# Altium footprint library QFN-28_6x6x065P.PcbLib: 1 footprints
Each footprint in its own frame and in the unit in brackets; x right, y up, seen from the top. Pads: shape width x height; smd on the part's side, far side on the other; paste and mask are expansions set on the pad; w line width, h text height; cw(c..) or ccw(c..) is an arc to the next point about the centre after c.
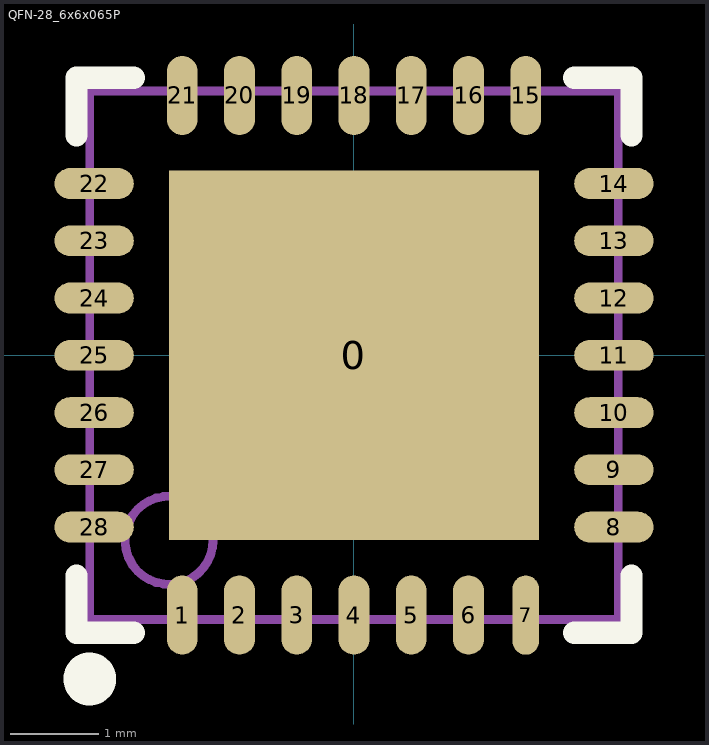
[diagram p0: the footprint, top view; thin cyan lines are the x and y axes]

## QFN-28_6x6x065P [mm]
pads (29):
  rect 4.2x4.2 smd mask+0.051: 0(0,0)
  oval 0.35x0.9 smd mask+0.051: 1(-1.95,-2.95) 2(-1.3,-2.95) 3(-0.65,-2.95) 4(0,-2.95) 5(0.65,-2.95) 6(1.3,-2.95) 15(1.95,2.95) 16(1.3,2.95) 17(0.65,2.95) 18(0,2.95) 19(-0.65,2.95) 20(-1.3,2.95) 21(-1.95,2.95)
  oval 0.3x0.9 smd mask+0.051: 7(1.95,-2.95)
  oval 0.9x0.35 smd mask+0.051: 8(2.95,-1.95) 9(2.95,-1.3) 10(2.95,-0.65) 11(2.95,0) 12(2.95,0.65) 13(2.95,1.3) 14(2.95,1.95) 22(-2.95,1.95) 23(-2.95,1.3) 24(-2.95,0.65) 25(-2.95,0) 26(-2.95,-0.65) 27(-2.95,-1.3) 28(-2.95,-1.95)
Top Overlay:
  circle w0.3: c-3,-3.675 r0.15
  lines w0.254: -3.15,-2.5 -3.15,-3.15 -2.5,-3.15 ; -3.15,2.5 -3.15,3.15 -2.5,3.15 ; 2.5,-3.15 3.15,-3.15 3.15,-2.5 ; 2.5,3.15 3.15,3.15 3.15,2.5
Mechanical 13:
  circle w0.1: c-2.1,-2.1 r0.5
  lines w0.1: -3,-3 -3,3 3,3 3,-3 -3,-3